# EAGLE library part DRV8835 (library DRV8835)
WSON_13P
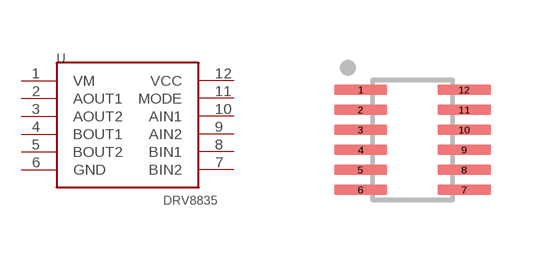
[diagram p0: symbol with the pads of WSON50P300X200X80-12N; footprint WSON50P300X200X80-12N]

Designator prefix U

## DRV8835 (A_MAX: 0.8; A_MIN: None; A_NOM: None; B_MAX: 0.3; B_MIN: 0.2; B_NOM: 0.25; D2_MAX: 0.0; D2_MIN: None; D2_NOM: 2.0; D_MAX: 3.1; D_MIN: 2.9; D_NOM: 3.0; E2_MAX: 0.0; E2_MIN: None; E2_NOM: 0.9; ENOM: 0.5; E_MAX: 2.1; E_MIN: 1.9; E_NOM: 2.0; L_MAX: 0.35; L_MIN: 0.25; L_NOM: 0.3; MANUFACTURER: Texas Instruments; PIN_COUNT: 12.0; SNAPEDA_PACKAGE_ID: 7802)  [WSON50P300X200X80-12N]
1  VM
2  AOUT1
3  AOUT2
4  BOUT1
5  BOUT2
6  GND
7  BIN2
8  BIN1
9  AIN2
10  AIN1
11  MODE
12  VCC

## Footprint WSON50P300X200X80-12N (pad centres in mm)
smd 1.34 x 0.27: 1 -1.295,1.25; 2 -1.295,0.75; 3 -1.295,0.25; 4 -1.295,-0.25; 5 -1.295,-0.75; 6 -1.295,-1.25; 7 1.295,-1.25; 8 1.295,-0.75; 9 1.295,-0.25; 10 1.295,0.25; 11 1.295,0.75; 12 1.295,1.25